# Altium schematic symbol library 74LVC125APW118.SchLib: 1 symbol
Pins are listed as number, name and electrical type; pins without a type are passive.

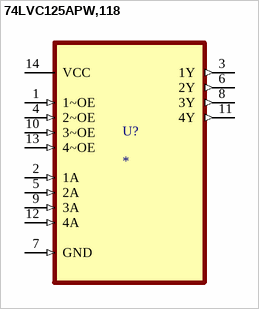
[diagram p0: symbol 74LVC125APW,118]

## 74LVC125APW,118
designator U?
IC BUF NON-INVERT 3.6V 14TSSOP; MP: 74LVC125APW,118; MF: Nexperia USA Inc.; Availability: Good; SnapEDA_Link: https://www.snapeda.com/parts/74LVC125APW,118/Nexperia/view-part/5160321/?ref=snap; Check_prices: https://www.snapeda.com/parts/74LVC125APW,118/Nexperia/view-part/5160321/?ref=eda; Value: *; Purchase-URL: https://pricing.snapeda.com/search/part/74LVC125APW,118/?ref=eda; Package: None; Price: None
footprint SOP65P640X110-14N
pins: 1 1~OE (in), 2 1A (in), 3 1Y (out), 4 2~OE (in), 5 2A (in), 6 2Y (out), 7 GND (in), 8 3Y (out), 9 3A (in), 10 3~OE (in), 11 4Y (out), 12 4A (in), 13 4~OE (in), 14 VCC